# Altium footprint library WS2812B.PcbLib: 3 footprints
Each footprint in its own frame and in the unit in brackets; x right, y up, seen from the top. Pads: shape width x height; smd on the part's side, far side on the other; paste and mask are expansions set on the pad; w line width, h text height; cw(c..) or ccw(c..) is an arc to the next point about the centre after c.
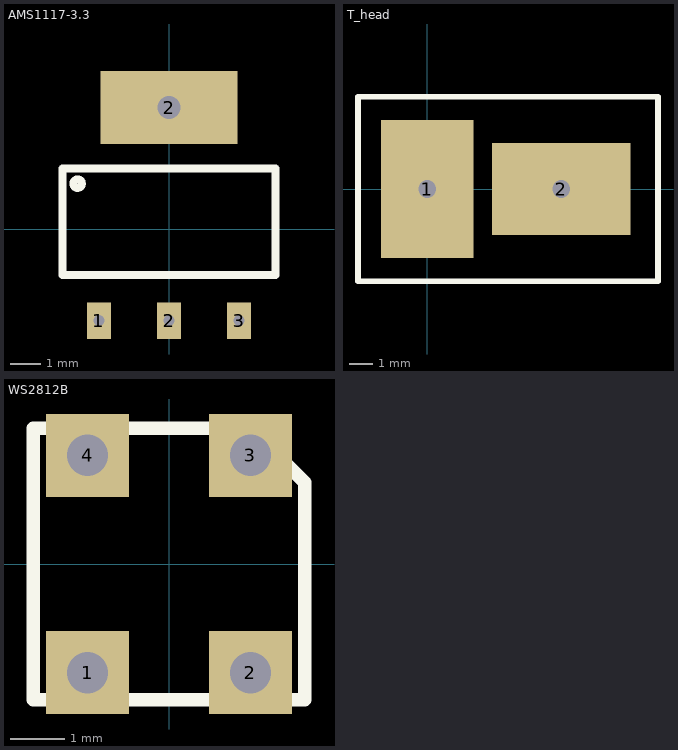
[diagram p0: the footprints below, top view; thin cyan lines are the x and y axes]

## AMS1117-3.3 [mm]
pads (4):
  rect 0.8x1.2 hole 0.362: 1(-2.3,-3) 2(0,-3) 3(2.3,-3)
  rect 4.5x2.4 hole 0.762: 2(0,4)
Top Overlay:
  circle w0.254: c-3,1.5 r0.141
  lines w0.254: -3.5,-1.5 -3.5,2 3.5,2 3.5,-1.5 -3.5,-1.5

## T_head [mm]
pads (2):
  rect 4x6 hole 0.762: 1(0,0)
  rect 6x4 hole 0.762: 2(5.8,0)
Top Overlay:
  lines w0.254: -3,-4 -3,4 10,4 10,-4 -3,-4

## WS2812B [mil]
pads (4):
  rect 60x60 hole 30: 1(-59.06,-78.74) 2(59.06,-78.74) 3(59.06,78.74) 4(-59.06,78.74)
Top Overlay:
  lines w10: -98.43,-98.43 98.43,-98.43 98.43,59.06 59.06,98.43 -98.43,98.43 -98.43,-98.43